# Altium footprint library MCU_BOARD.PcbLib: 17 footprints (part 2 of 2)
Each footprint in its own frame and in the unit in brackets; x right, y up, seen from the top. Pads: shape width x height; smd on the part's side, far side on the other; paste and mask are expansions set on the pad; w line width, h text height; cw(c..) or ccw(c..) is an arc to the next point about the centre after c.
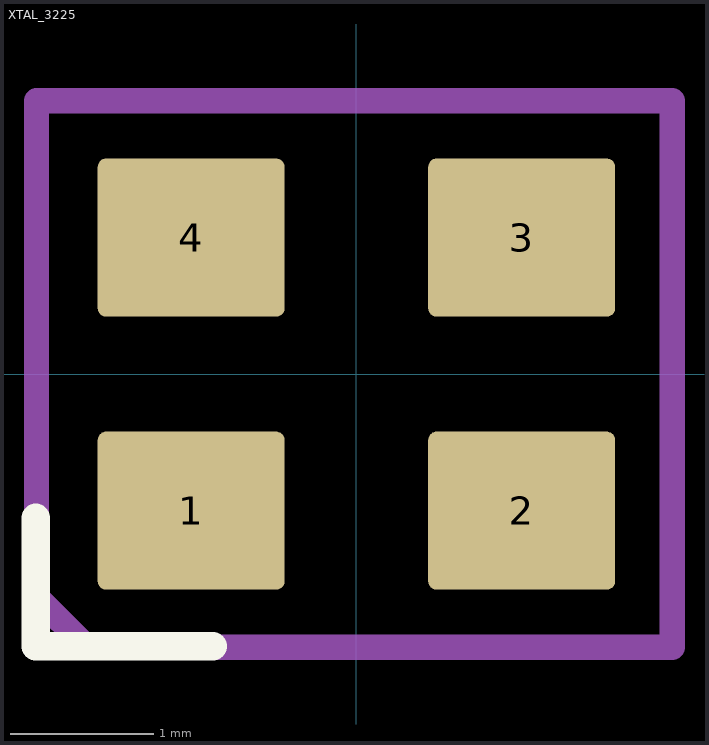
[diagram p1: the footprint, top view; thin cyan lines are the x and y axes]

## XTAL_3225 [mm]
pads (4):
  rrect10% 1.3x1.1 smd: 1(-1.15,-0.95) 2(1.15,-0.95) 3(1.15,0.95) 4(-1.15,0.95)
Top Overlay:
  lines w0.2: -2.231,-1 -2.231,-1.893 -1,-1.893
Mechanical 13:
  circle w0.254: c-1.15,-0.95 r0.112
  lines w0.175: -0.478,1.903 2.197,1.903 2.197,-1.9 -1.875,-1.9 -2.225,-1.55 -2.225,1.903 0.472,1.903
  text "'.Designator'" at -2.094,-0.226 h1
3D body "Y3225.step": height 0.61, standoff 0, extent -1.6,-1.275 1.6,1.225